# Altium schematic symbol library REALY.SchLib: 7 symbols
Pins are listed as number, name and electrical type; pins without a type are passive.

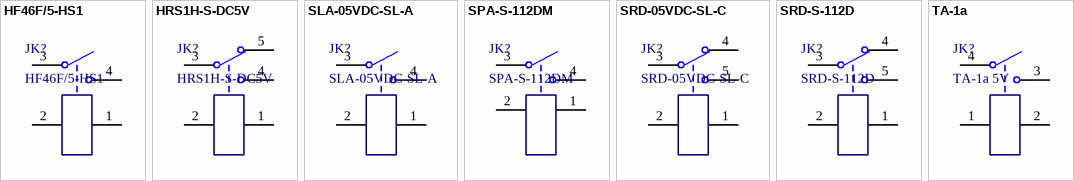
[diagram p0: symbols HF46F/5-HS1 to TA-1a]

## HF46F/5-HS1
designator JK?
5V常开
footprint HF46-xx-HS1 (一组常开，长：20.5mm，宽：7mm，高：15.3mm)
pins: 1, 2, 3, 4

## HRS1H-S-DC5V
designator JK?
5V转换
footprint HRS1H (单刀双投)
pins: 1, 2, 3, 4, 5

## SLA-05VDC-SL-A
designator JK?
5V常开
footprint SLA-xxVDC-SL-A (一组常开，长：32mm，宽：27.6mm，高：20mm)
pins: 1, 2, 3, 4

## SPA-S-112DM
designator JK?
12V常开
footprint SPA-S-112DM (单刀单投/常开)
pins: 1, 2, 3, 4

## SRD-05VDC-SL-C
designator JK?
5V转换
footprint SRD-C_B (单刀双投)
pins: 1, 2, 3, 4, 5

## SRD-S-112D
designator JK?
12V转换
footprint SRD-C_BK (单刀双投)
pins: 1, 2, 3, 4, 5

## TA-1a
designator JK?, comment TA-1a 5V
常开
footprint TA-1a (微功耗超薄继电器21mm*5mm*12.5mm(长*宽*高))
pins: 1, 2, 3, 4